# EAGLE library part CON-SFC-7P (library Clean-Kong)
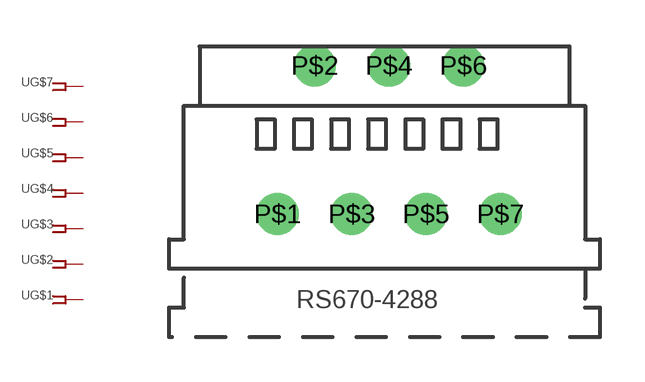
[diagram p27: symbol with the pads of CON-FPC-7; footprint CON-FPC-7]

Designator prefix -; gates G$1=FPIN G$2=FPIN G$3=FPIN G$4=FPIN G$5=FPIN G$6=FPIN G$7=FPIN

## CON-SFC-7P  [CON-FPC-7]
P$1  G$1:1  pas
P$2  G$2:1  pas
P$3  G$3:1  pas
P$4  G$4:1  pas
P$5  G$5:1  pas
P$6  G$6:1  pas
P$7  G$7:1  pas

## Footprint CON-FPC-7 (pad centres in mm)
Connecteur FPC Molex série 5597 FFC/FPC THROUGH HOLE, 7 Contacts pas 1.25mm, Femelle Angle droit RS670-4288
drill 0.8 pad 1.422: P$1 0,0; P$2 1.25,5; P$3 2.5,0; P$4 3.75,5; P$5 5,0; P$6 6.25,5; P$7 7.5,0